# EAGLE library part TS_TRANSFORMER (library GEN_WIP_MASTERLIB)
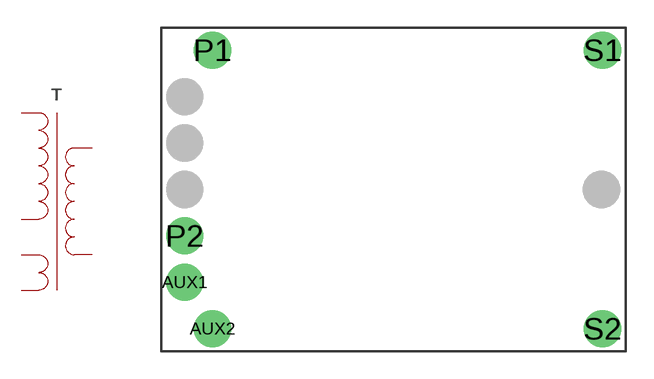
[diagram p1: symbol with the pads of TS_TRANS; footprint TS_TRANS]

Designator prefix T

## TS_TRANSFORMER  [TS_TRANS]
AUX1  AUX1
AUX2  AUX2
P1  P1
P2  P2
S1  S1
S2  S2

## Footprint TS_TRANS (pad centres in mm)
drill 1 pad 2: AUX1 -11.25,-5; AUX2 -9.75,-7.5; P1 -9.75,7.5; P2 -11.25,-2.5; S1 11.25,7.5; S2 11.25,-7.5